# EAGLE library part ICX205AL (library ICs)
1/2" Progressive scan CCD monochrome image sensor. 1.4MP 1360x1024.
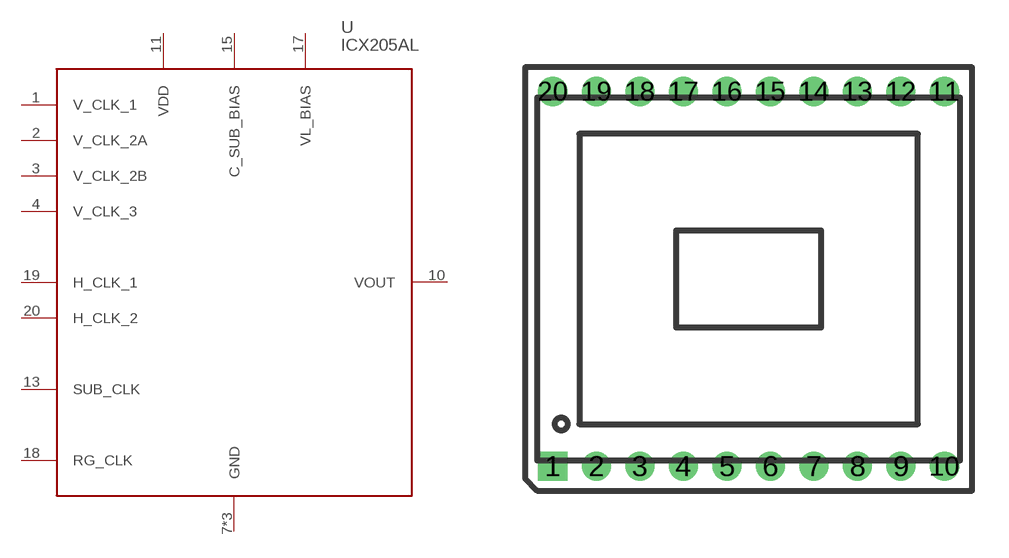
[diagram p51: symbol with the pads of DIP20-600MIL; footprint DIP20-600MIL]

Designator prefix U

## ICX205AL  [DIP20-600MIL]
1  V_CLK_1
2  V_CLK_2A
3  V_CLK_2B
4  V_CLK_3
7  GND
9  GND
10  VOUT
11  VDD
12  GND
13  SUB_CLK
15  C_SUB_BIAS
17  VL_BIAS
18  RG_CLK
19  H_CLK_1
20  H_CLK_2

## Footprint DIP20-600MIL (pad centres in mm)
drill 0.7 square: 1 -8.1,-7.75
drill 0.7: 2 -6.3,-7.75; 3 -4.5,-7.75; 4 -2.7,-7.75; 5 -0.9,-7.75; 6 0.9,-7.75; 7 2.7,-7.75; 8 4.5,-7.75; 9 6.3,-7.75; 10 8.1,-7.75; 11 8.1,7.75; 12 6.3,7.75; 13 4.5,7.75; 14 2.7,7.75; 15 0.9,7.75; 16 -0.9,7.75; 17 -2.7,7.75; 18 -4.5,7.75; 19 -6.3,7.75; 20 -8.1,7.75